# Altium integrated library RF.IntLib: 2 symbols
Pins are listed as number, name and electrical type; pins without a type are passive.

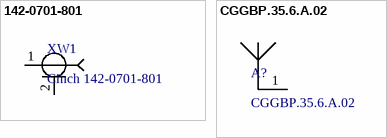
[diagram p0: symbols 142-0701-801 to CGGBP.35.6.A.02]

## 142-0701-801
designator XW1, comment Cinch 142-0701-801
RF SMA Connector, 1 Contact(s), Female, Board Mount, Surface Mount Terminal, Locking, Jack; Manufacturer: Bel Cinch; Body Material: Brass; Dielectric Material: 182ConductorMaterial; Impedance: 50R; Operating Frequency: 0 to 18 GHz; Polarity: 4902Direction; Connector Type: SMA,Coaxial; Clock Frequency: 18GHz; Number of Contacts: 1NUMBER; Supplier: Avnet; Supplier Part Number: 90F2624; Manufacturer Part Number: 142-0701-801; RoHS: Yes; Category: RF / Coaxial Connectors; Stock: 1518; Pricing: 1=6,76, 10=6,1, 25=5,76, 50=5,55, 100=5,3 (USD); Mounting Technology: Edge; Case/Package: SMA; Contact Plating: Gold; Contact Material: Copper; Housing Color: 61Colour; Housing Material: 152ConductorMaterial; Insulation Material: 182ConductorMaterial; Min Operating Temperature: -65°C; Max Operating Temperature: 165°C; Gender: Female; Termination: Solder; Orientation: Straight; Series: SMA; Package Quantity: 25; Packaging: Bulk; RoHS Compliant: Yes; Reach SVHC Compliant: Unknown; Lead Free: 5697LeadFree; ComponentLink1URL: https://datasheet.ciiva.com/643/dr-1420701806-643306.pdf?src-supplier=Digikey; ComponentLink1Description: https://datasheet.ciiva.com/643/dr-1420701806-643306.pdf?src-supplier=Digikey; ComponentLink2URL: https://datasheet.ciiva.com/23769/1707351-23769377.pdf?src-supplier=Newark; ComponentLink2Description: https://datasheet.ciiva.com/23769/1707351-23769377.pdf?src-supplier=Newark; ComponentLink3URL: https://datasheet.ciiva.com/9418/pi-142-0701-801-9418872.pdf?src-supplier=Avnet; ComponentLink3Description: https://datasheet.ciiva.com/9418/pi-142-0701-801-9418872.pdf?src-supplier=Avnet; ComponentLink4URL: https://datasheet.ciiva.com/16747/142-0701-801-16747117.pdf?src-supplier=Future+Electronics; ComponentLink4Description: https://datasheet.ciiva.com/16747/142-0701-801-16747117.pdf?src-supplier=Future+Electronics; ComponentLink5URL: https://datasheet.ciiva.com/30171/pi-142-0701-801-30171558.pdf?src-supplier=Onlinecomponents.com; ComponentLink5Description: https://datasheet.ciiva.com/30171/pi-142-0701-801-30171558.pdf?src-supplier=Onlinecomponents.com; Supplier 1: https://www.chipdip.ru/product0/8005575655
footprint 142-0701-871 (Connector; SMA, Edge)
pins: 1, 2

## CGGBP.35.6.A.02
designator A?
GPS/ GLONASS/ BeiDou Patch Antenna , 35mm*35mm*6.5mm 3~4dBi; Manufacturer: Taoglas; Supplier: Farnell; Supplier Part Number: 2919751; Manufacturer Part Number: CGGBP.35.6.A.02; RoHS: Yes; Category: RF Antennas; Stock: 47; Pricing: 1=9,05, 5=8,61, 10=8,16, 50=8,15, 100=8,14, 250=8,13 (EUR); ComponentLink1URL: http://www.taoglas.com/wp-content/uploads/2015/04/CGGBP.35.6.A.02.pdf?src-supplier=Digikey; ComponentLink1Description: http://www.taoglas.com/wp-content/uploads/2015/04/CGGBP.35.6.A.02.pdf?src-supplier=Digikey; ComponentLink2URL: http://taoglas.com/images/product_images/original_images/CGGBP.35.6.A.02.pdf?src-supplier=Avnet; ComponentLink2Description: http://taoglas.com/images/product_images/original_images/CGGBP.35.6.A.02.pdf?src-supplier=Avnet; Supplier 1: https://www.chipdip.ru/product0/8005404623
footprint CGGBP.35.6.A.02 (GPS/GLONASS Antenna)
pins: 1